# EAGLE library part FT245RNL-REEL (library SamacSys_Parts)
UART Interface IC USB Full Speed to Parallel FIFO IC, Includes Oscillator and EEPROM, SSOP-28 Source: Datasheet <https://ftdichip.com/wp-content/uploads/2023/04/DS_FT245RN-v1.3.pdf>
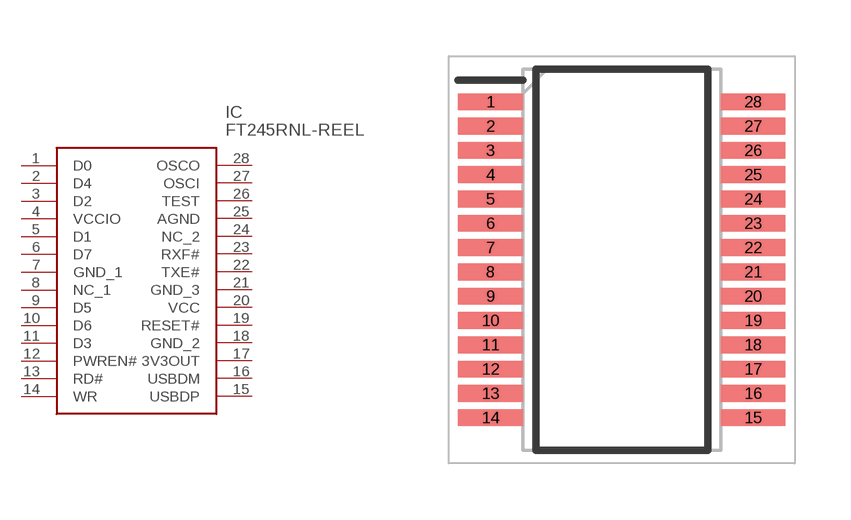
[diagram p17: symbol with the pads of SOP65P780X200-28N; footprint SOP65P780X200-28N]

Designator prefix IC

## FT245RNL-REEL (DESCRIPTION: UART Interface IC USB Full Speed to Parallel FIFO IC, Includes Oscillator and EEPROM, SSOP-28; HEIGHT: 2mm; MANUFACTURER_NAME: FTDI Chip; MANUFACTURER_PART_NUMBER: FT245RNL-REEL; MOUSER_PART_NUMBER: 895-FT245RNL-REEL; MOUSER_PRICE-STOCK: https://www.mouser.co.uk/ProductDetail/FTDI/FT245RNL-REEL?qs=By6Nw2ByBD3cFjIkOaIHSw%3D%3D)  [SOP65P780X200-28N]
1  D0
2  D4
3  D2
4  VCCIO
5  D1
6  D7
7  GND_1
8  NC_1
9  D5
10  D6
11  D3
12  PWREN#
13  RD#
14  WR
15  USBDP
16  USBDM
17  3V3OUT
18  GND_2
19  RESET#
20  VCC
21  GND_3
22  TXE#
23  RXF#
24  NC_2
25  AGND
26  TEST
27  OSCI
28  OSCO

## Footprint SOP65P780X200-28N (pad centres in mm)
SSOP-28
smd 1.725 x 0.45: 1 -3.512,4.225; 2 -3.512,3.575; 3 -3.512,2.925; 4 -3.512,2.275; 5 -3.512,1.625; 6 -3.512,0.975; 7 -3.512,0.325; 8 -3.512,-0.325; 9 -3.512,-0.975; 10 -3.512,-1.625; 11 -3.512,-2.275; 12 -3.512,-2.925; 13 -3.512,-3.575; 14 -3.512,-4.225; 15 3.512,-4.225; 16 3.512,-3.575; 17 3.512,-2.925; 18 3.512,-2.275; 19 3.512,-1.625; 20 3.512,-0.975; 21 3.512,-0.325; 22 3.512,0.325; 23 3.512,0.975; 24 3.512,1.625; 25 3.512,2.275; 26 3.512,2.925; 27 3.512,3.575; 28 3.512,4.225